# Altium schematic symbol library main_project_library.SchLib: 9 symbols
Pins are listed as number, name and electrical type; pins without a type are passive.

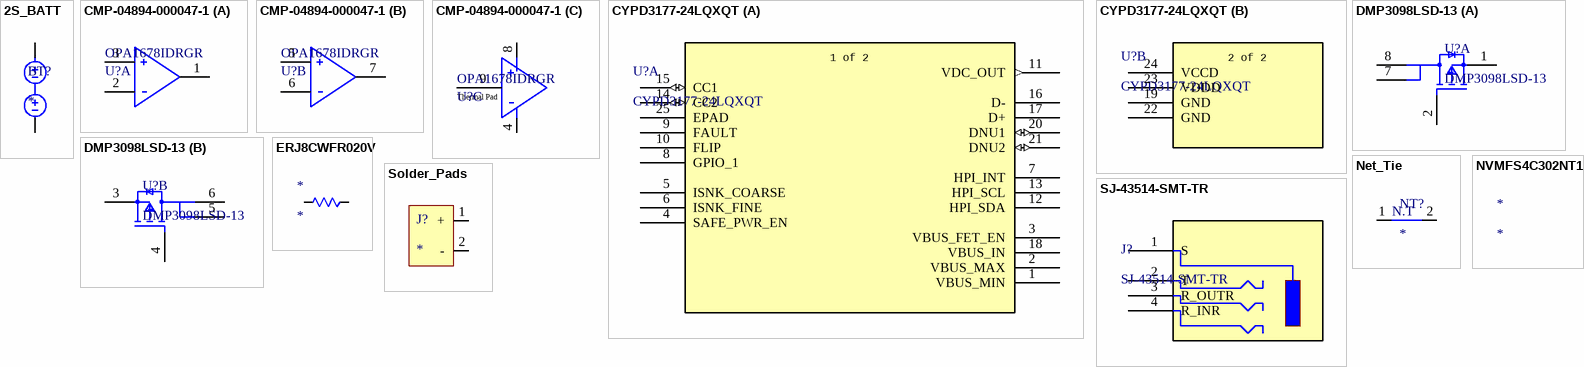
[diagram p0: symbols 2S_BATT to Solder_Pads]

## 2S_BATT
designator BT?
footprint 2_soldering_pads
pins: 1, 2

## CMP-04894-000047-1
designator U?, comment OPA1678IDRGR
IC AUDIO 2 CIRCUIT 8SON; Input Bias Current: 10pA; Input Offset Voltage (Vos): 500uV; Number of Circuits: 2; Operating Supply Current: 2mA; Slew Rate: 9V/µs; Gain Bandwidth Product: 16MHz; Min Operating Temperature: -40°C; Max Operating Temperature: 85°C; RoHS Compliant: Yes; Mount: Surface Mount; Packaging: Cut Tape; Number of Channels: 2
footprint FP-DRG0008A-IPC_B
part A pins: 1 OUT B, 2 -IN B (hiz), 3 +IN B (hiz)
part B pins: 5 +IN B (hiz), 6 -IN B (hiz), 7 OUT B
part C pins: 4 OUT B, 8 OUT B, 9 Thermal_Pad
part C text: Thermal Pad

## CYPD3177-24LQXQT
designator U?
EZ-PDâ„¢ Barrel Connector Replacement (BCR) CYPD3177-24LQXQT is the tape and reel packing type option of EZ-PDâ„¢ BCR family, the highly-integrated USB Type-C port controllers for power sink applications. It targets electronic devices using legacy barrel connectors up to 100 W or USB micro-B for power inputs, enabling product designers to replace these incompatible connectors with USB-C.EZ-PDâ„¢ BCR complies with USB Type-C and USB 3.0 Power Delivery (PD) standards and enables users to quickly convert their devices from being powered through a barrel connector to being powered via the USB-C connector with few external components and no firmware development is required. It integrates a complete USB Type-C transceiver, USB PD policy manager, a load switch controller with a soft start, all termination resistors required for a USB Type-C port, and system-level ESD protection. It is available in a 24-pin QFN package.; Manufacturer_Name: Infineon; Copyright: Copyright (C) 2026 Ultra Librarian. All rights reserved.; Manufacturer_Part_Number: CYPD3177-24LQXQT; RefDes: RefDes; Type: Type
footprint QFN24_CYPD3177-24LQXQT_INF
part A pins: 1 VBUS_MIN, 2 VBUS_MAX, 3 VBUS_FET_EN, 4 SAFE_PWR_EN, 5 ISNK_COARSE, 6 ISNK_FINE, 7 HPI_INT, 8 GPIO_1, 9 FAULT, 10 FLIP, 11 VDC_OUT (out), 12 HPI_SDA, 13 HPI_SCL, 14 CC2 (io), 15 CC1 (io), 16 D-, 17 D+, 18 VBUS_IN, 20 DNU1 (io), 21 DNU2 (io), 25 EPAD
part B pins: 19 GND (power), 22 GND (power), 23 VDDD (power), 24 VCCD (power)
part A text: 1 of 2
part B text: 2 of 2

## DMP3098LSD-13
designator U?
Description; Manufacturer_Name: Diodes Inc; Copyright: Copyright (C) 2025 Ultra Librarian. All rights reserved.; Manufacturer_Part_Number: DMP3098LSD-13; RefDes: RefDes; Type: Type
footprint SOP_DMP3098LSD-13_DIO
part A pins: 1 S1, 2 G1, 7 D1, 8 D1
part B pins: 3 S2, 4 G2, 5 D2, 6 D2

## ERJ8CWFR020V
designator *
pins: 1, 2

## Net_Tie
designator NT?  (net tie, no BOM)
footprint Net_Tie_150
footprint Net_TIe_254
pins: 1, 2
text: N.T

## NVMFS4C302NT1G
designator *

## SJ-43514-SMT-TR
designator J?
Description; Manufacturer_Name: Same Sky; Copyright: Copyright (C) 2025 Ultra Librarian. All rights reserved.; Manufacturer_Part_Number: SJ-43514-SMT-TR; RefDes: RefDes; Type: Type
footprint SJ-43514-SMT_CUD
pins: 1 S, 2 T, 3 R_OUTR, 4 R_INR

## Solder_Pads
designator J?
footprint 2_soldering_pads
pins: 1 +, 2 -